# Altium schematic symbol library Power MOSFET.SchLib: 1 symbol
Pins are listed as number, name and electrical type; pins without a type are passive.

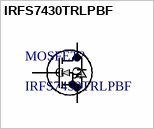
[diagram p0: symbol IRFS7430TRLPBF]

## IRFS7430TRLPBF
designator MOSFET?
No Description Available; Vendor: Infineon; Built_By: EMA_Cory; SourceLibrary: Infineon_2020-06-10; Datasheet: https://www.infineon.com/dgdl/Infineon-IRFS7430-DS-v01_00-EN.pdf?fileId=5546d462576f3475015792dbfbd6000d; Manufacturer_Part_Number: IRFS7430TRLPBF; Copyright: Copyright (C) 2018 Accelerated Designs. All rights reserved; RefDes: RefDes; Type: DEV
footprint D2PAK_TO-263AB_INF-M
pins: 1 G, 2 D, 3 S